# Altium footprint library SM_L_13.8MMx12.5MMx5MM.PcbLib: 1 footprints
Each footprint in its own frame and in the unit in brackets; x right, y up, seen from the top. Pads: shape width x height; smd on the part's side, far side on the other; paste and mask are expansions set on the pad; w line width, h text height; cw(c..) or ccw(c..) is an arc to the next point about the centre after c.
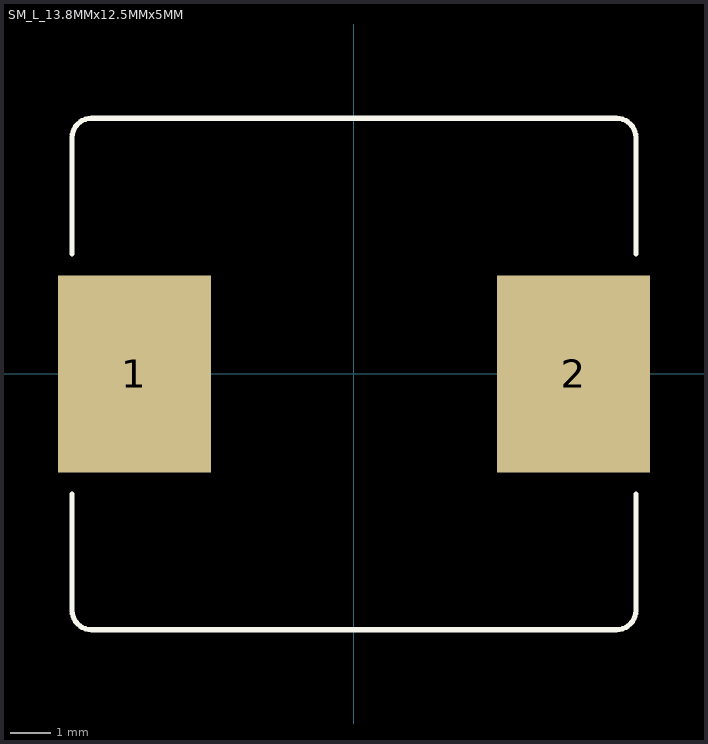
[diagram p0: the footprint, top view; thin cyan lines are the x and y axes]

## SM_L_13.8MMx12.5MMx5MM [mm] "13.8mm x 12.5mm x 5mm"
height 5
pads (2):
  rect 3.8x4.9 smd mask+0.076: 1(-5.45,0) 2(5.45,0)
Top Overlay:
  lines w0.127: -7,-2.975 -7,-5.767 -7,-5.867 ccw(c-6.517,-5.867) -6.517,-6.35 -6.417,-6.35 6.417,-6.35 6.517,-6.35 ccw(c6.517,-5.867) 7,-5.867 7,-5.767 7,-2.975 ; -7,2.975 -7,5.767 -7,5.867 cw(c-6.517,5.867) -6.517,6.35 -6.417,6.35 6.417,6.35 6.517,6.35 cw(c6.517,5.867) 7,5.867 7,5.767 7,2.975
3D body: height 3, standoff 0, extent 6.85,-2 6.95,2
3D body: height 3, standoff 0, extent -6.95,-2 -6.85,2
3D body: height 5, standoff 0, extent -6.9,-6.25 6.9,6.25